# Altium integrated library transistors_bjt.IntLib: 27 symbols
Pins are listed as number, name and electrical type; pins without a type are passive.

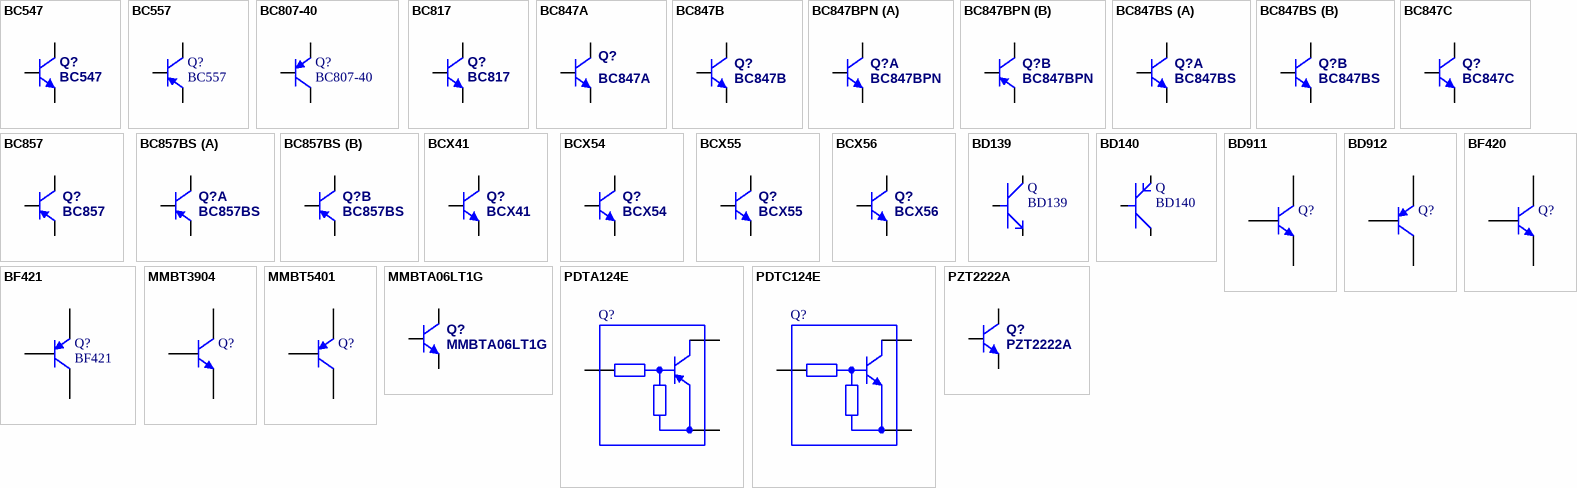
[diagram p0: symbols BC547 to PZT2222A]

## BC547
designator Q?
NPN General Purpose Transistor (VCE=45V, IC=100mA); Published: 21-Mar-2006
footprint TO-92A
footprint TO-92B
footprint TO-92C
footprint TO-92D
pins: 1 C, 2 B, 3 E

## BC557
designator Q?
PNP General Purpose Transistor (VCE=-45V, IC=-100mA); Published: 21-Mar-2006
footprint TO-92A
footprint TO-92B
footprint TO-92C
footprint TO-92D
pins: 1 B, 2 E, 3 C

## BC807-40
designator Q?
PNP General Purpose Amplifier; Published: 8-Jun-2000; LatestRevisionDate: 17-Jul-2002; LatestRevisionNote: Re-released for DXP Platform.; DatasheetDocument: 1997; PackageDocument: Sep-1998; PackageReference: SOT-23A; Publisher: Altium Limited; ComponentLink1Description: Manufacturer Link; ComponentLink1URL: http://www.fairchildsemi.com/; ComponentLink2Description: Datasheet; ComponentLink2URL: http://www.fairchildsemi.com/ds/BC%2FBC807.pdf
footprint SOT-23
pins: 1 B, 2 E, 3 C

## BC817
designator Q?
45 V, 500 mA NPN general-purpose transistor; Published: 8-Jun-2000; LatestRevisionDate: 17-Jul-2002; LatestRevisionNote: Re-released for DXP Platform.; DatasheetDocument: 1997; PackageDocument: Sep-1998; PackageReference: SOT-23A; Publisher: Altium Limited; ComponentLink1Description: Manufacturer Link; ComponentLink1URL: http://www.fairchildsemi.com/; ComponentLink2Description: Discontinuation Notice; ComponentLink2URL: http://www.fairchildsemi.com/obsolete/obs.jsp
footprint SOT-23
pins: 1 B, 2 E, 3 C

## BC847A
designator Q?
NPN General Purpose Transistor (VCE=45V, IC=100mA, HFE=110-220); PowerRating: 250mW; VCEO: 45V; IC: 100mA; Supplier 1: TME; Supplier 2: Farnell; Supplier 3: Farnell; Supplier 4: Farnell; Supplier 5: Farnell; Supplier Part Number 1: BC847A-DIO; Supplier Part Number 2: 1081231; Supplier Part Number 3: 1081231RL; Supplier Part Number 4: 1459037RL; Supplier Part Number 5: 1459037; HFE: 110-220
footprint SOT-23
footprint SOT-23W
pins: 1 B, 2 E, 3 C

## BC847B
designator Q?
NPN General Purpose Transistor (VCE=45V, IC=100mA, HFE=200-450); PowerRating: 250mW; VCEO: 45V; IC: 100mA; HFE: 200-450; Supplier 1: TME; Supplier 2: TME; Supplier 3: TME; Supplier 4: Farnell; Supplier 5: Farnell; Supplier 6: Farnell; Supplier 7: Farnell; Supplier 8: Farnell; Supplier 9: Farnell; Supplier Part Number 1: BC847B.215; Supplier Part Number 2: BC847B-DIO; Supplier Part Number 3: BC847B.235; Supplier Part Number 4: 1562449; Supplier Part Number 5: 1081232; Supplier Part Number 6: 1081232RL; Supplier Part Number 7: 1773608RL; Supplier Part Number 8: 2336781; Supplier Part Number 9: 1574343
footprint SOT-23
footprint SOT-23W
pins: 1 B, 2 E, 3 C

## BC847BPN
designator Q?
PNP/NPN General Purpose Transistor (VCE=45V, IC=100mA); Supplier 1: TME; Supplier 2: Farnell; Supplier 3: Farnell; Supplier 4: Farnell; Supplier Part Number 1: BC847BPN.115; Supplier Part Number 2: 2336824; Supplier Part Number 3: 1081233RL; Supplier Part Number 4: 1081233
footprint SOT-323-6 (SOT-363, SC88, SC70-6) (SOT-363; 6 Leads; Body 2.2 x 2.2 mm, inc. leads (LxW max))
part A pins: 1 EA, 2 BA, 6 CA
part B pins: 3 CB, 4 EB, 5 BB

## BC847BS
designator Q?
2xNPN General Purpose Transistor (VCE=45V, IC=100mA); Supplier 1: TME; Supplier 2: Farnell; Supplier 3: Farnell; Supplier 4: Farnell; Supplier 5: Farnell; Supplier 6: Farnell; Supplier 7: TME; Supplier 8: TME; Supplier 9: Farnell; Supplier 10: Farnell; Supplier 11: Farnell; Supplier Part Number 1: BC847BS-7-F; Supplier Part Number 2: 1081234RL; Supplier Part Number 3: 1773587RL; Supplier Part Number 4: 2454146; Supplier Part Number 5: 1773587; Supplier Part Number 6: 2454146RL; Supplier Part Number 7: BC847BS.115; Supplier Part Number 8: BC847BS-FAI; Supplier Part Number 9: 1081234; Supplier Part Number 10: 1924322; Supplier Part Number 11: 2336825
footprint SOT-323-6 (SOT-363, SC88, SC70-6) (SOT-363; 6 Leads; Body 2.2 x 2.2 mm, inc. leads (LxW max))
part A pins: 1 EA, 2 BA, 6 CA
part B pins: 3 CB, 4 EB, 5 BB

## BC847C
designator Q?
NPN General Purpose Transistor (VCE=45V, IC=100mA, HFE=420-800); PowerRating: 250mW; VCEO: 45V; IC: 100mA; HFE: 420-800; Supplier 1: Farnell; Supplier 2: Mouser; Supplier 3: Farnell; Supplier 4: Farnell; Supplier 5: Farnell; Supplier 6: Farnell; Supplier 7: Farnell; Supplier 8: Farnell; Supplier 9: Farnell; Supplier 10: TME; Supplier 11: TME; Supplier 12: TME; Supplier Part Number 1: 1081235; Supplier Part Number 2: 512-BC847CMTF; Supplier Part Number 3: 2319372; Supplier Part Number 4: 1081235RL; Supplier Part Number 5: 1574344RL; Supplier Part Number 6: 1574344; Supplier Part Number 7: 2317857; Supplier Part Number 8: 1459038RL; Supplier Part Number 9: 1459038; Supplier Part Number 10: BC847C; Supplier Part Number 11: BC847C-DIO; Supplier Part Number 12: BC847C.215
footprint SOT-23
footprint SOT-23W
pins: 1 B, 2 E, 3 C

## BC857
designator Q?
PNP General Purpose Transistor (VCE=-45V, IC=-100mA)
footprint SOT-23
footprint SOT-23W
pins: 1 B, 2 E, 3 C

## BC857BS
designator Q?
2xPNP General Purpose Transistor (VCE=-45V, IC=-100mA); Supplier 1: Farnell; Supplier 2: TME; Supplier 3: Farnell; Supplier 4: Farnell; Supplier 5: Farnell; Supplier 6: Farnell; Supplier 7: TME; Supplier Part Number 1: 2336826; Supplier Part Number 2: BC857BS; Supplier Part Number 3: 1081247; Supplier Part Number 4: 1081247RL; Supplier Part Number 5: 1773588; Supplier Part Number 6: 1773588RL; Supplier Part Number 7: BC857BS-7-F
footprint SOT-323-6 (SOT-363, SC88, SC70-6) (SOT-363; 6 Leads; Body 2.2 x 2.2 mm, inc. leads (LxW max))
part A pins: 1 EA, 2 BA, 6 CA
part B pins: 3 CB, 4 EB, 5 BB

## BCX41
designator Q?
NPN Silicon AF and Switching Transistor (VCE=125V, IC=800mA, HFE=20-63); PowerRating: 250mW; VCEO: 125V; IC: 800mA; HFE: 20-63; Supplier 1: TME; Supplier 2: Farnell; Supplier Part Number 1: BCX41; Supplier Part Number 2: 2432735
footprint SOT-23
footprint SOT-23W
pins: 1 B, 2 E, 3 C

## BCX54
designator Q?
NPN Medium Power Transistor (VCE=45V, IC=1A, HFE=40-250); PowerRating: 1350mW; VCEO: 45V; IC: 1A; HFE: 40-250; Supplier 1: Farnell; Supplier 2: Farnell; Supplier 3: Farnell; Supplier 4: TME; Supplier Part Number 1: 1081277RL; Supplier Part Number 2: 1798043; Supplier Part Number 3: 1081277; Supplier Part Number 4: BCX54-16
footprint SOT-89
pins: 1 B, 2 C, 3 E

## BCX55
designator Q?
NPN Medium Power Transistor (VCE=60V, IC=1A, HFE=40-250); PowerRating: 1350mW; VCEO: 60V; IC: 1A; HFE: 40-250; Supplier 1: Farnell; Supplier 2: Farnell; Supplier 3: TME; Supplier Part Number 1: 1081278RL; Supplier Part Number 2: 1081278; Supplier Part Number 3: BCX55-10
footprint SOT-89
pins: 1 B, 2 C, 3 E

## BCX56
designator Q?
NPN Medium Power Transistor (VCE=80V, IC=1A, HFE=40-250); PowerRating: 1350mW; VCEO: 80V; IC: 1A; HFE: 40-250; Supplier 1: Farnell; Supplier 2: Farnell; Supplier 3: TME; Supplier 4: TME; Supplier 5: Farnell; Supplier Part Number 1: 1081280RL; Supplier Part Number 2: 1798047; Supplier Part Number 3: BCX56-16; Supplier Part Number 4: BCX5616TA; Supplier Part Number 5: 1081280
footprint SOT-89
pins: 1 B, 2 C, 3 E

## BD139
designator Q
footprint TO126
pins: 1, 2, 3

## BD140
designator Q
footprint TO126
pins: 1, 2, 3

## BD911
designator Q?
NPN Power Transistor; Published: 14-Sep-2006
footprint TO220
footprint TO220/Toshiba
pins: 1 B, 2 C, 3 E

## BD912
designator Q?
PNP Power Transistor; Published: 14-Sep-2006
footprint TO220
footprint TO220/Toshiba
pins: 1 B, 2 C, 3 E

## BF420
designator Q?
NPN Transistor, 300V, 0.1A, 0.83W; Published: 14-Sep-2006
footprint TO92
pins: 1 E, 2 C, 3 B

## BF421
designator Q?
PNP Transistor, 300V, 0.1A, 0.83W; Published: 14-Sep-2006
footprint TO92
pins: 1 E, 2 C, 3 B

## MMBT3904
designator Q?
NPN Transistor; Published: 29-Jan-2007; PackageReference: SO-23
footprint SOT-23
pins: 1 B, 2 E, 3 C

## MMBT5401
designator Q?
PNP Transistor; Published: 24-Jan-2007; PackageReference: SO-23
footprint SOT-23
pins: 1 B, 2 E, 3 C

## MMBTA06LT1G
designator Q?
NPN Silicon AF and Switching Transistor (VCE=80V, IC=500mA, HFE>=100); PowerRating: 225mW; VCEO: 80V; IC: 500mA; HFE: >100; Supplier 1: Farnell; Supplier 2: Farnell; Supplier 3: Farnell; Supplier 4: TME; Supplier Part Number 1: 2317805; Supplier Part Number 2: 9555897; Supplier Part Number 3: 2145051; Supplier Part Number 4: MMBTA06LT1G
footprint SOT-23
footprint SOT-23W
pins: 1 B, 2 E, 3 C

## PDTA124E
designator Q?
PNP resistor-equipped transistors; Published: 20-Sep-2006
footprint SOT-23
pins: 1 B, 2 E, 3 C

## PDTC124E
designator Q?
NPN resistor-equipped transistors; Published: 20-Sep-2006
footprint SOT-23
pins: 1 B, 2 E, 3 C

## PZT2222A
designator Q?
NPN Switching Transistor (VCE=40V, IC=600mA); PowerRating: 250mW; VCEO: 40; IC: 600mA; HFE: 110-220; Supplier 1: TME; Supplier Part Number 1: PZT2222AT1G
footprint SOT-223
pins: 1 B, 2 C, 3 E, 4 C